# Altium schematic symbol library S101031MS02Q.SchLib: 1 symbol
Pins are listed as number, name and electrical type; pins without a type are passive.

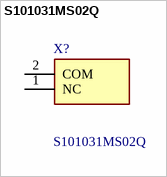
[diagram p0: symbol S101031MS02Q]

## S101031MS02Q
designator X?
Slide Switches SPST 6A PC TH AG; Manufacturer_Name: LITTELFUSE; Geometry.Height: 18.41mm; Manufacturer_Part_Number: S101031MS02Q; Mouser Part Number: 611-S101031MS02Q; Mouser Price/Stock: https://www.mouser.co.uk/ProductDetail/CK/S101031MS02Q?qs=rSrlmGad8O4HSGnv%2FMP6JQ%3D%3D; Arrow Part Number: S101031MS02Q; Arrow Price/Stock: https://www.arrow.com/en/products/s101031ms02q/ck?utm_currency=USD&region=nac; Datasheet Link: https://www.ckswitches.com/media/1433/s.pdf
footprint S101031MS02Q
pins: 1 NC, 2 COM